# Altium integrated library Linear Technology Power Management Hot Swap Controllers.IntLib: 992 symbols (part 34 of 93)
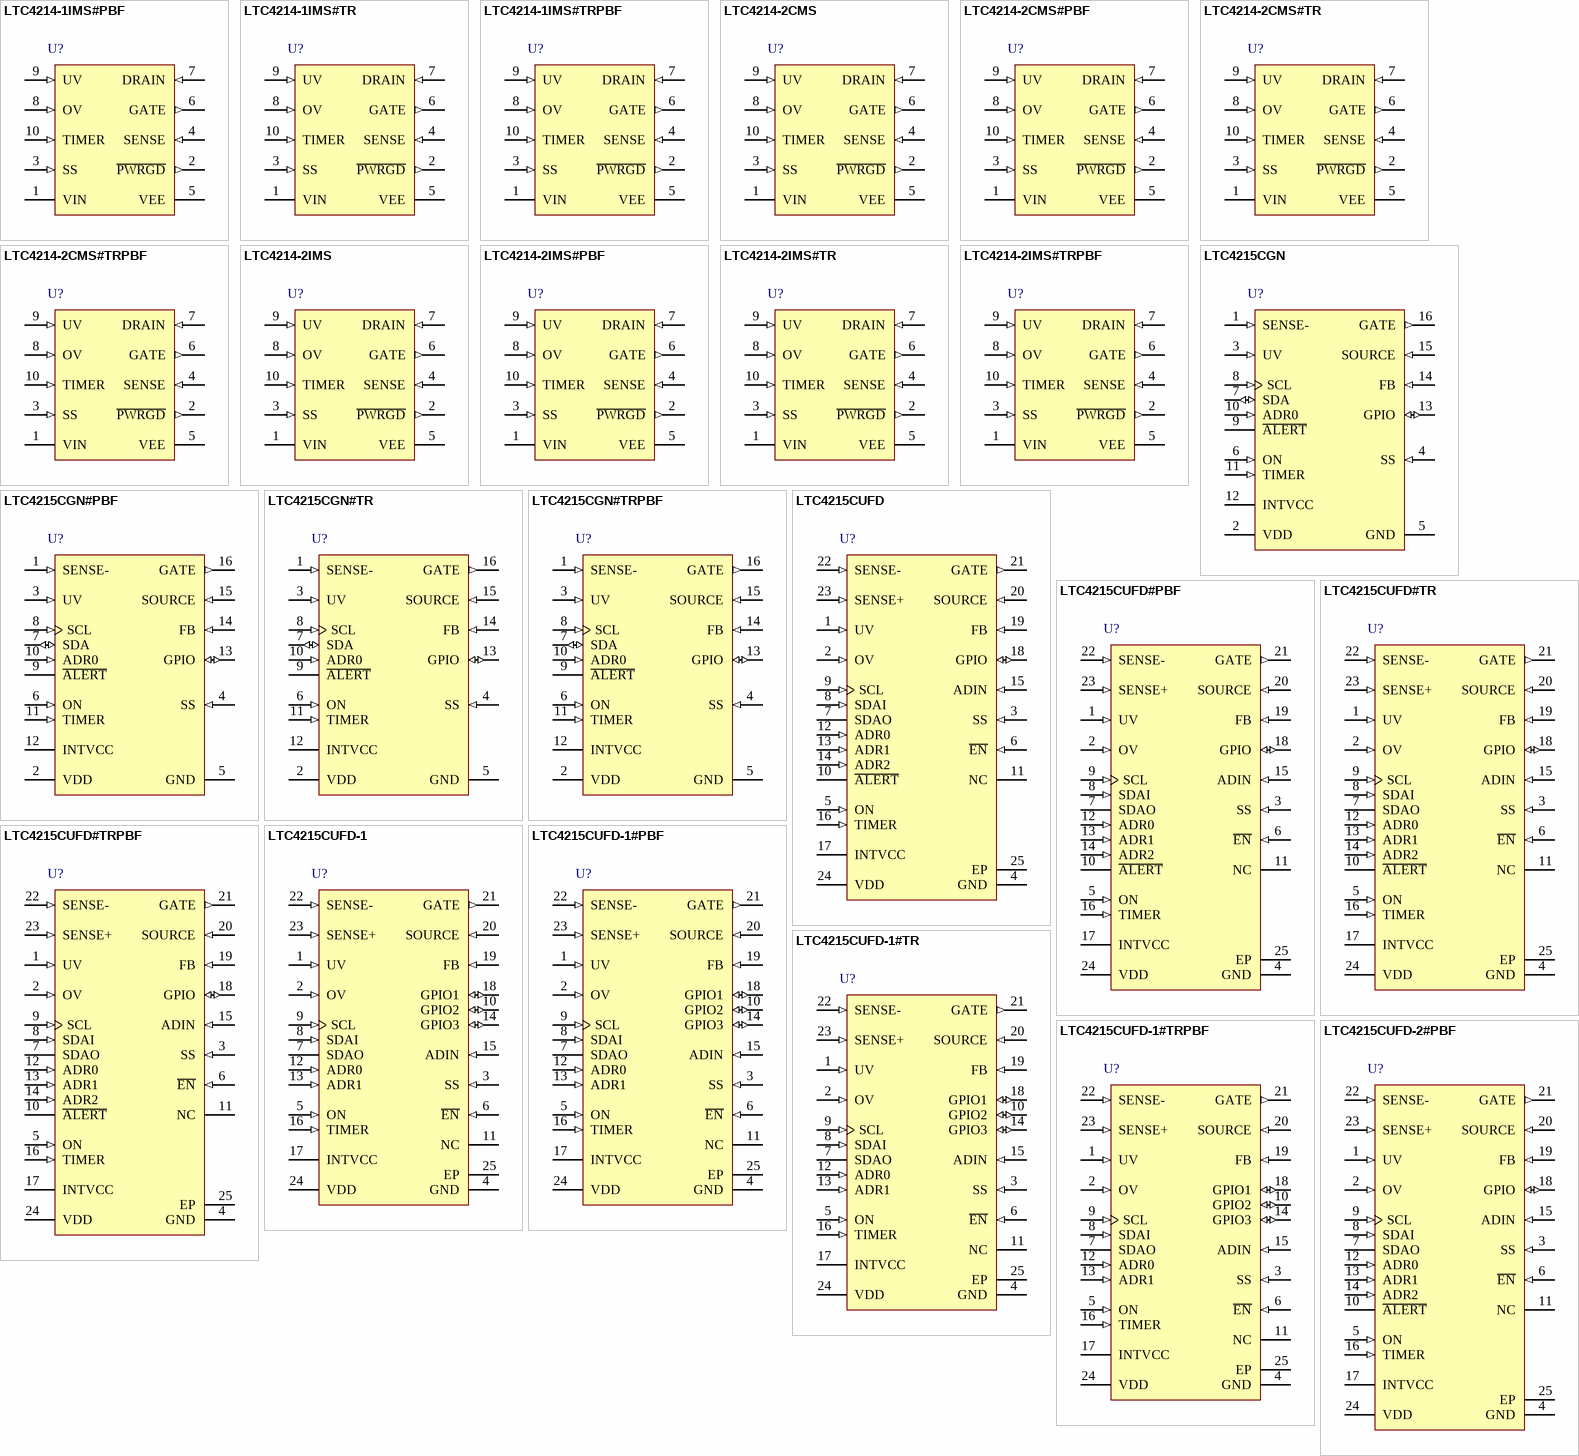
[diagram p70: symbols LTC4214-1IMS#PBF to LTC4215CUFD-2#PBF]

## LTC4214-1IMS#TR
designator U?
Negative Low Voltage Hot Swap Controller, -6 to -16 V Vin, 10-pin SOP (MS-10), -40 to 85 degC, Tape and Reel; Manufacturer: Linear Technology; PartNumber: LTC4214-1IMS#TR; Active Limiting: yes; Circuit Breaker Accuracy(%): 12; Circuit Breaker Threshold: 50 mV; Circuit Breakers(#): 1; Extended Temp: C, I; Fault: no; In-Rush Current: Active; PackageVersion: Rev. E, 06/2010; PackageReference: MS-10; PackageDescription: 10-Pin Plastic MSOP, Body 3 x 3 mm, Pitch 0.5 mm; Supplier 1: Digi-Key; Supplier Part Number 1: LTC4214-1IMS#TR-ND; Fast Comparator: yes; Foldback: no; Packing: Tape and Reel; Power Good: yes; Reset: no; RoHS: FALSE; Vin Range: -6 to -16 V; Mounting Technology: Surface Mount; ComponentLink1Description: Manufacturer URL; ComponentLink1URL: http://www.linear.com/; ComponentLink2Description: Datasheet; ComponentLink2URL: http://cds.linear.com/docs/en/datasheet/421412f.pdf; ComponentLink3Description: Package Specification; ComponentLink3URL: http://cds.linear.com/docs/en/packaging/05081661_F_MS.pdf
footprint LT-MS-10_N (SOP, 10-Leads, Body 3.1x3.1mm, Pitch 0.5mm, IPC Medium Density)
footprint LT-MS-10_L (SOP, 10-Leads, Body 3.1x3.1mm, Pitch 0.5mm, IPC High Density)
footprint LT-MS-10_M (SOP, 10-Leads, Body 3.1x3.1mm, Pitch 0.5mm, IPC Low Density)
pins: 1 VIN (power) "Positive Supply Input. Connect this pin to the positive side of the supply through a dropping resistor. A shunt regulator clamps VIN at 13V. An internal undervoltage lockout (UVLO) circuit holds GATE low until the VIN pin is (See Datasheet)", 2 ~{PWRGD} (out) "Power Good Status Output (MS only). At start-up, P\W\R\G\D\ latches low if DRAIN is below 2.385V and GATE is within 2.8V of VIN. P\W\R\G\D\ status is reset by UV, VIN (UVLO) or a circuit breaker fault timeout. This pin is (See Datasheet)", 3 SS (in) "Soft-Start Pin. This pin is used to ramp inrush current during start up, thereby effecting control over di/dt. A 20x attenuated version of the SS pin voltage is presented to the current limit amplifier. This attenuated (See Datasheet)", 4 SENSE (in) "Circuit Breaker/Current Limit Sense Pin. Load current is monitored by a sense resistor RS connected between SENSE and VEE, and controlled in three steps. If SENSE exceeds VCB (50mV), the circuit breaker comparator activates (See Datasheet)", 5 VEE (power) "Negative Supply Voltage Input. Connect this pin to the negative side of the power supply.", 6 GATE (out) "N-Channel MOSFET Gate Drive Output. This pin is pulled high by a 58uA current source. GATE is pulled low by invalid conditions at VIN (UVLO), UV, OV, or a circuit breaker fault timeout. GATE is actively servoed to control (See Datasheet)", 7 DRAIN (in) "Drain Sense Input. Connecting an external resistor, RD, between this pin and the MOSFET’s drain (VOUT) allows voltage sensing below 6.15V (5V for LTC4252C) and current feedback to TIMER. A comparator detects if DRAIN i(See Datasheet)", 8 OV (in) "Overvoltage Input. The active high threshold at the OV pin is set at 6.15V with 0.6V hysteresis. If OV > 6.15V, GATE pulls low. When OV returns below 5.55V, GATE start-up begins without an initial timing cycle. The LTC4252C (See Datasheet)", 9 UV (in) "Undervoltage Input. The active low threshold at the UV pin is set at 2.925V with 0.3V hysteresis. If UV < 2.925V, P\W\R\G\D\ pulls high, both GATE and TIMER pull low. If UV rises above 3.225V, this initiates an initial (See Datasheet)", 10 TIMER (in) "Timer Input. TIMER is used to generate an initial timing delay at start-up and to delay shutdown in the event of an output overload (circuit breaker fault). TIMER starts an initial timing cycle when the following conditions (See Datasheet)"

## LTC4214-1IMS#TRPBF
designator U?
Negative Low Voltage Hot Swap Controller, -6 to -16 V Vin, 10-pin SOP (MS-10), -40 to 85 degC, Pb-Free, Tape and Reel; Manufacturer: Linear Technology; PartNumber: LTC4214-1IMS#TRPBF; Active Limiting: yes; Circuit Breaker Accuracy(%): 12; Circuit Breaker Threshold: 50 mV; Circuit Breakers(#): 1; Extended Temp: C, I; Fault: no; In-Rush Current: Active; PackageVersion: Rev. E, 06/2010; PackageReference: MS-10; PackageDescription: 10-Pin Plastic MSOP, Body 3 x 3 mm, Pitch 0.5 mm; Supplier 1: Digi-Key; Supplier Part Number 1: LTC4214-1IMS#TRPBF-ND; Fast Comparator: yes; Foldback: no; Packing: Tape and Reel; Power Good: yes; Reset: no; RoHS: TRUE; Vin Range: -6 to -16 V; Mounting Technology: Surface Mount; ComponentLink1Description: Manufacturer URL; ComponentLink1URL: http://www.linear.com/; ComponentLink2Description: Datasheet; ComponentLink2URL: http://cds.linear.com/docs/en/datasheet/421412f.pdf; ComponentLink3Description: Package Specification; ComponentLink3URL: http://cds.linear.com/docs/en/packaging/05081661_F_MS.pdf
footprint LT-MS-10_N (SOP, 10-Leads, Body 3.1x3.1mm, Pitch 0.5mm, IPC Medium Density)
footprint LT-MS-10_L (SOP, 10-Leads, Body 3.1x3.1mm, Pitch 0.5mm, IPC High Density)
footprint LT-MS-10_M (SOP, 10-Leads, Body 3.1x3.1mm, Pitch 0.5mm, IPC Low Density)
pins: 1 VIN (power) "Positive Supply Input. Connect this pin to the positive side of the supply through a dropping resistor. A shunt regulator clamps VIN at 13V. An internal undervoltage lockout (UVLO) circuit holds GATE low until the VIN pin is (See Datasheet)", 2 ~{PWRGD} (out) "Power Good Status Output (MS only). At start-up, P\W\R\G\D\ latches low if DRAIN is below 2.385V and GATE is within 2.8V of VIN. P\W\R\G\D\ status is reset by UV, VIN (UVLO) or a circuit breaker fault timeout. This pin is (See Datasheet)", 3 SS (in) "Soft-Start Pin. This pin is used to ramp inrush current during start up, thereby effecting control over di/dt. A 20x attenuated version of the SS pin voltage is presented to the current limit amplifier. This attenuated (See Datasheet)", 4 SENSE (in) "Circuit Breaker/Current Limit Sense Pin. Load current is monitored by a sense resistor RS connected between SENSE and VEE, and controlled in three steps. If SENSE exceeds VCB (50mV), the circuit breaker comparator activates (See Datasheet)", 5 VEE (power) "Negative Supply Voltage Input. Connect this pin to the negative side of the power supply.", 6 GATE (out) "N-Channel MOSFET Gate Drive Output. This pin is pulled high by a 58uA current source. GATE is pulled low by invalid conditions at VIN (UVLO), UV, OV, or a circuit breaker fault timeout. GATE is actively servoed to control (See Datasheet)", 7 DRAIN (in) "Drain Sense Input. Connecting an external resistor, RD, between this pin and the MOSFET’s drain (VOUT) allows voltage sensing below 6.15V (5V for LTC4252C) and current feedback to TIMER. A comparator detects if DRAIN i(See Datasheet)", 8 OV (in) "Overvoltage Input. The active high threshold at the OV pin is set at 6.15V with 0.6V hysteresis. If OV > 6.15V, GATE pulls low. When OV returns below 5.55V, GATE start-up begins without an initial timing cycle. The LTC4252C (See Datasheet)", 9 UV (in) "Undervoltage Input. The active low threshold at the UV pin is set at 2.925V with 0.3V hysteresis. If UV < 2.925V, P\W\R\G\D\ pulls high, both GATE and TIMER pull low. If UV rises above 3.225V, this initiates an initial (See Datasheet)", 10 TIMER (in) "Timer Input. TIMER is used to generate an initial timing delay at start-up and to delay shutdown in the event of an output overload (circuit breaker fault). TIMER starts an initial timing cycle when the following conditions (See Datasheet)"

## LTC4214-2CMS
designator U?
Negative Low Voltage Hot Swap Controller, -6 to -16 V Vin, 10-pin SOP (MS-10), 0 to 70 degC; Manufacturer: Linear Technology; PartNumber: LTC4214-2CMS; Active Limiting: yes; Circuit Breaker Accuracy(%): 12; Circuit Breaker Threshold: 50 mV; Circuit Breakers(#): 1; Extended Temp: C, I; Fault: no; In-Rush Current: Active; PackageVersion: Rev. E, 06/2010; PackageReference: MS-10; PackageDescription: 10-Pin Plastic MSOP, Body 3 x 3 mm, Pitch 0.5 mm; Supplier 1: Digi-Key; Supplier Part Number 1: LTC4214-2CMS-ND; Fast Comparator: yes; Foldback: no; Power Good: yes; Reset: no; RoHS: FALSE; Vin Range: -6 to -16 V; Mounting Technology: Surface Mount; ComponentLink1Description: Manufacturer URL; ComponentLink1URL: http://www.linear.com/; ComponentLink2Description: Datasheet; ComponentLink2URL: http://cds.linear.com/docs/en/datasheet/421412f.pdf; ComponentLink3Description: Package Specification; ComponentLink3URL: http://cds.linear.com/docs/en/packaging/05081661_F_MS.pdf
footprint LT-MS-10_N (SOP, 10-Leads, Body 3.1x3.1mm, Pitch 0.5mm, IPC Medium Density)
footprint LT-MS-10_L (SOP, 10-Leads, Body 3.1x3.1mm, Pitch 0.5mm, IPC High Density)
footprint LT-MS-10_M (SOP, 10-Leads, Body 3.1x3.1mm, Pitch 0.5mm, IPC Low Density)
pins: 1 VIN (power) "Positive Supply Input. Connect this pin to the positive side of the supply through a dropping resistor. A shunt regulator clamps VIN at 13V. An internal undervoltage lockout (UVLO) circuit holds GATE low until the VIN pin is (See Datasheet)", 2 ~{PWRGD} (out) "Power Good Status Output (MS only). At start-up, P\W\R\G\D\ latches low if DRAIN is below 2.385V and GATE is within 2.8V of VIN. P\W\R\G\D\ status is reset by UV, VIN (UVLO) or a circuit breaker fault timeout. This pin is (See Datasheet)", 3 SS (in) "Soft-Start Pin. This pin is used to ramp inrush current during start up, thereby effecting control over di/dt. A 20x attenuated version of the SS pin voltage is presented to the current limit amplifier. This attenuated (See Datasheet)", 4 SENSE (in) "Circuit Breaker/Current Limit Sense Pin. Load current is monitored by a sense resistor RS connected between SENSE and VEE, and controlled in three steps. If SENSE exceeds VCB (50mV), the circuit breaker comparator activates (See Datasheet)", 5 VEE (power) "Negative Supply Voltage Input. Connect this pin to the negative side of the power supply.", 6 GATE (out) "N-Channel MOSFET Gate Drive Output. This pin is pulled high by a 58uA current source. GATE is pulled low by invalid conditions at VIN (UVLO), UV, OV, or a circuit breaker fault timeout. GATE is actively servoed to control (See Datasheet)", 7 DRAIN (in) "Drain Sense Input. Connecting an external resistor, RD, between this pin and the MOSFET’s drain (VOUT) allows voltage sensing below 6.15V (5V for LTC4252C) and current feedback to TIMER. A comparator detects if DRAIN i(See Datasheet)", 8 OV (in) "Overvoltage Input. The active high threshold at the OV pin is set at 6.15V with 0.6V hysteresis. If OV > 6.15V, GATE pulls low. When OV returns below 5.55V, GATE start-up begins without an initial timing cycle. The LTC4252C (See Datasheet)", 9 UV (in) "Undervoltage Input. The active low threshold at the UV pin is set at 2.925V with 0.3V hysteresis. If UV < 2.925V, P\W\R\G\D\ pulls high, both GATE and TIMER pull low. If UV rises above 3.225V, this initiates an initial (See Datasheet)", 10 TIMER (in) "Timer Input. TIMER is used to generate an initial timing delay at start-up and to delay shutdown in the event of an output overload (circuit breaker fault). TIMER starts an initial timing cycle when the following conditions (See Datasheet)"

## LTC4214-2CMS#PBF
designator U?
Negative Low Voltage Hot Swap Controller, -6 to -16 V Vin, 10-pin SOP (MS-10), 0 to 70 degC, Pb-Free; Manufacturer: Linear Technology; PartNumber: LTC4214-2CMS#PBF; Active Limiting: yes; Circuit Breaker Accuracy(%): 12; Circuit Breaker Threshold: 50 mV; Circuit Breakers(#): 1; Extended Temp: C, I; Fault: no; In-Rush Current: Active; PackageVersion: Rev. E, 06/2010; PackageReference: MS-10; PackageDescription: 10-Pin Plastic MSOP, Body 3 x 3 mm, Pitch 0.5 mm; Supplier 1: Digi-Key; Supplier Part Number 1: LTC4214-2CMS#PBF-ND; Supplier 2: Farnell; Supplier Part Number 2: 1273992; Supplier 3: Newark; Supplier Part Number 3: 56M8816; Fast Comparator: yes; Foldback: no; Power Good: yes; Reset: no; RoHS: TRUE; Vin Range: -6 to -16 V; Mounting Technology: Surface Mount; ComponentLink1Description: Manufacturer URL; ComponentLink1URL: http://www.linear.com/; ComponentLink2Description: Datasheet; ComponentLink2URL: http://cds.linear.com/docs/en/datasheet/421412f.pdf; ComponentLink3Description: Package Specification; ComponentLink3URL: http://cds.linear.com/docs/en/packaging/05081661_F_MS.pdf
footprint LT-MS-10_N (SOP, 10-Leads, Body 3.1x3.1mm, Pitch 0.5mm, IPC Medium Density)
footprint LT-MS-10_L (SOP, 10-Leads, Body 3.1x3.1mm, Pitch 0.5mm, IPC High Density)
footprint LT-MS-10_M (SOP, 10-Leads, Body 3.1x3.1mm, Pitch 0.5mm, IPC Low Density)
pins: 1 VIN (power) "Positive Supply Input. Connect this pin to the positive side of the supply through a dropping resistor. A shunt regulator clamps VIN at 13V. An internal undervoltage lockout (UVLO) circuit holds GATE low until the VIN pin is (See Datasheet)", 2 ~{PWRGD} (out) "Power Good Status Output (MS only). At start-up, P\W\R\G\D\ latches low if DRAIN is below 2.385V and GATE is within 2.8V of VIN. P\W\R\G\D\ status is reset by UV, VIN (UVLO) or a circuit breaker fault timeout. This pin is (See Datasheet)", 3 SS (in) "Soft-Start Pin. This pin is used to ramp inrush current during start up, thereby effecting control over di/dt. A 20x attenuated version of the SS pin voltage is presented to the current limit amplifier. This attenuated (See Datasheet)", 4 SENSE (in) "Circuit Breaker/Current Limit Sense Pin. Load current is monitored by a sense resistor RS connected between SENSE and VEE, and controlled in three steps. If SENSE exceeds VCB (50mV), the circuit breaker comparator activates (See Datasheet)", 5 VEE (power) "Negative Supply Voltage Input. Connect this pin to the negative side of the power supply.", 6 GATE (out) "N-Channel MOSFET Gate Drive Output. This pin is pulled high by a 58uA current source. GATE is pulled low by invalid conditions at VIN (UVLO), UV, OV, or a circuit breaker fault timeout. GATE is actively servoed to control (See Datasheet)", 7 DRAIN (in) "Drain Sense Input. Connecting an external resistor, RD, between this pin and the MOSFET’s drain (VOUT) allows voltage sensing below 6.15V (5V for LTC4252C) and current feedback to TIMER. A comparator detects if DRAIN i(See Datasheet)", 8 OV (in) "Overvoltage Input. The active high threshold at the OV pin is set at 6.15V with 0.6V hysteresis. If OV > 6.15V, GATE pulls low. When OV returns below 5.55V, GATE start-up begins without an initial timing cycle. The LTC4252C (See Datasheet)", 9 UV (in) "Undervoltage Input. The active low threshold at the UV pin is set at 2.925V with 0.3V hysteresis. If UV < 2.925V, P\W\R\G\D\ pulls high, both GATE and TIMER pull low. If UV rises above 3.225V, this initiates an initial (See Datasheet)", 10 TIMER (in) "Timer Input. TIMER is used to generate an initial timing delay at start-up and to delay shutdown in the event of an output overload (circuit breaker fault). TIMER starts an initial timing cycle when the following conditions (See Datasheet)"

## LTC4214-2CMS#TR
designator U?
Negative Low Voltage Hot Swap Controller, -6 to -16 V Vin, 10-pin SOP (MS-10), 0 to 70 degC, Tape and Reel; Manufacturer: Linear Technology; PartNumber: LTC4214-2CMS#TR; Active Limiting: yes; Circuit Breaker Accuracy(%): 12; Circuit Breaker Threshold: 50 mV; Circuit Breakers(#): 1; Extended Temp: C, I; Fault: no; In-Rush Current: Active; PackageVersion: Rev. E, 06/2010; PackageReference: MS-10; PackageDescription: 10-Pin Plastic MSOP, Body 3 x 3 mm, Pitch 0.5 mm; Supplier 1: Digi-Key; Supplier Part Number 1: LTC4214-2CMS#TR-ND; Fast Comparator: yes; Foldback: no; Packing: Tape and Reel; Power Good: yes; Reset: no; RoHS: FALSE; Vin Range: -6 to -16 V; Mounting Technology: Surface Mount; ComponentLink1Description: Manufacturer URL; ComponentLink1URL: http://www.linear.com/; ComponentLink2Description: Datasheet; ComponentLink2URL: http://cds.linear.com/docs/en/datasheet/421412f.pdf; ComponentLink3Description: Package Specification; ComponentLink3URL: http://cds.linear.com/docs/en/packaging/05081661_F_MS.pdf
footprint LT-MS-10_N (SOP, 10-Leads, Body 3.1x3.1mm, Pitch 0.5mm, IPC Medium Density)
footprint LT-MS-10_L (SOP, 10-Leads, Body 3.1x3.1mm, Pitch 0.5mm, IPC High Density)
footprint LT-MS-10_M (SOP, 10-Leads, Body 3.1x3.1mm, Pitch 0.5mm, IPC Low Density)
pins: 1 VIN (power) "Positive Supply Input. Connect this pin to the positive side of the supply through a dropping resistor. A shunt regulator clamps VIN at 13V. An internal undervoltage lockout (UVLO) circuit holds GATE low until the VIN pin is (See Datasheet)", 2 ~{PWRGD} (out) "Power Good Status Output (MS only). At start-up, P\W\R\G\D\ latches low if DRAIN is below 2.385V and GATE is within 2.8V of VIN. P\W\R\G\D\ status is reset by UV, VIN (UVLO) or a circuit breaker fault timeout. This pin is (See Datasheet)", 3 SS (in) "Soft-Start Pin. This pin is used to ramp inrush current during start up, thereby effecting control over di/dt. A 20x attenuated version of the SS pin voltage is presented to the current limit amplifier. This attenuated (See Datasheet)", 4 SENSE (in) "Circuit Breaker/Current Limit Sense Pin. Load current is monitored by a sense resistor RS connected between SENSE and VEE, and controlled in three steps. If SENSE exceeds VCB (50mV), the circuit breaker comparator activates (See Datasheet)", 5 VEE (power) "Negative Supply Voltage Input. Connect this pin to the negative side of the power supply.", 6 GATE (out) "N-Channel MOSFET Gate Drive Output. This pin is pulled high by a 58uA current source. GATE is pulled low by invalid conditions at VIN (UVLO), UV, OV, or a circuit breaker fault timeout. GATE is actively servoed to control (See Datasheet)", 7 DRAIN (in) "Drain Sense Input. Connecting an external resistor, RD, between this pin and the MOSFET’s drain (VOUT) allows voltage sensing below 6.15V (5V for LTC4252C) and current feedback to TIMER. A comparator detects if DRAIN i(See Datasheet)", 8 OV (in) "Overvoltage Input. The active high threshold at the OV pin is set at 6.15V with 0.6V hysteresis. If OV > 6.15V, GATE pulls low. When OV returns below 5.55V, GATE start-up begins without an initial timing cycle. The LTC4252C (See Datasheet)", 9 UV (in) "Undervoltage Input. The active low threshold at the UV pin is set at 2.925V with 0.3V hysteresis. If UV < 2.925V, P\W\R\G\D\ pulls high, both GATE and TIMER pull low. If UV rises above 3.225V, this initiates an initial (See Datasheet)", 10 TIMER (in) "Timer Input. TIMER is used to generate an initial timing delay at start-up and to delay shutdown in the event of an output overload (circuit breaker fault). TIMER starts an initial timing cycle when the following conditions (See Datasheet)"

## LTC4214-2CMS#TRPBF
designator U?
Negative Low Voltage Hot Swap Controller, -6 to -16 V Vin, 10-pin SOP (MS-10), 0 to 70 degC, Pb-Free, Tape and Reel; Manufacturer: Linear Technology; PartNumber: LTC4214-2CMS#TRPBF; Active Limiting: yes; Circuit Breaker Accuracy(%): 12; Circuit Breaker Threshold: 50 mV; Circuit Breakers(#): 1; Extended Temp: C, I; Fault: no; In-Rush Current: Active; PackageVersion: Rev. E, 06/2010; PackageReference: MS-10; PackageDescription: 10-Pin Plastic MSOP, Body 3 x 3 mm, Pitch 0.5 mm; Supplier 1: Digi-Key; Supplier Part Number 1: LTC4214-2CMS#TRPBF-ND; Fast Comparator: yes; Foldback: no; Packing: Tape and Reel; Power Good: yes; Reset: no; RoHS: TRUE; Vin Range: -6 to -16 V; Mounting Technology: Surface Mount; ComponentLink1Description: Manufacturer URL; ComponentLink1URL: http://www.linear.com/; ComponentLink2Description: Datasheet; ComponentLink2URL: http://cds.linear.com/docs/en/datasheet/421412f.pdf; ComponentLink3Description: Package Specification; ComponentLink3URL: http://cds.linear.com/docs/en/packaging/05081661_F_MS.pdf
footprint LT-MS-10_N (SOP, 10-Leads, Body 3.1x3.1mm, Pitch 0.5mm, IPC Medium Density)
footprint LT-MS-10_L (SOP, 10-Leads, Body 3.1x3.1mm, Pitch 0.5mm, IPC High Density)
footprint LT-MS-10_M (SOP, 10-Leads, Body 3.1x3.1mm, Pitch 0.5mm, IPC Low Density)
pins: 1 VIN (power) "Positive Supply Input. Connect this pin to the positive side of the supply through a dropping resistor. A shunt regulator clamps VIN at 13V. An internal undervoltage lockout (UVLO) circuit holds GATE low until the VIN pin is (See Datasheet)", 2 ~{PWRGD} (out) "Power Good Status Output (MS only). At start-up, P\W\R\G\D\ latches low if DRAIN is below 2.385V and GATE is within 2.8V of VIN. P\W\R\G\D\ status is reset by UV, VIN (UVLO) or a circuit breaker fault timeout. This pin is (See Datasheet)", 3 SS (in) "Soft-Start Pin. This pin is used to ramp inrush current during start up, thereby effecting control over di/dt. A 20x attenuated version of the SS pin voltage is presented to the current limit amplifier. This attenuated (See Datasheet)", 4 SENSE (in) "Circuit Breaker/Current Limit Sense Pin. Load current is monitored by a sense resistor RS connected between SENSE and VEE, and controlled in three steps. If SENSE exceeds VCB (50mV), the circuit breaker comparator activates (See Datasheet)", 5 VEE (power) "Negative Supply Voltage Input. Connect this pin to the negative side of the power supply.", 6 GATE (out) "N-Channel MOSFET Gate Drive Output. This pin is pulled high by a 58uA current source. GATE is pulled low by invalid conditions at VIN (UVLO), UV, OV, or a circuit breaker fault timeout. GATE is actively servoed to control (See Datasheet)", 7 DRAIN (in) "Drain Sense Input. Connecting an external resistor, RD, between this pin and the MOSFET’s drain (VOUT) allows voltage sensing below 6.15V (5V for LTC4252C) and current feedback to TIMER. A comparator detects if DRAIN i(See Datasheet)", 8 OV (in) "Overvoltage Input. The active high threshold at the OV pin is set at 6.15V with 0.6V hysteresis. If OV > 6.15V, GATE pulls low. When OV returns below 5.55V, GATE start-up begins without an initial timing cycle. The LTC4252C (See Datasheet)", 9 UV (in) "Undervoltage Input. The active low threshold at the UV pin is set at 2.925V with 0.3V hysteresis. If UV < 2.925V, P\W\R\G\D\ pulls high, both GATE and TIMER pull low. If UV rises above 3.225V, this initiates an initial (See Datasheet)", 10 TIMER (in) "Timer Input. TIMER is used to generate an initial timing delay at start-up and to delay shutdown in the event of an output overload (circuit breaker fault). TIMER starts an initial timing cycle when the following conditions (See Datasheet)"

## LTC4214-2IMS
designator U?
Negative Low Voltage Hot Swap Controller, -6 to -16 V Vin, 10-pin SOP (MS-10), -40 to 85 degC; Manufacturer: Linear Technology; PartNumber: LTC4214-2IMS; Active Limiting: yes; Circuit Breaker Accuracy(%): 12; Circuit Breaker Threshold: 50 mV; Circuit Breakers(#): 1; Extended Temp: C, I; Fault: no; In-Rush Current: Active; PackageVersion: Rev. E, 06/2010; PackageReference: MS-10; PackageDescription: 10-Pin Plastic MSOP, Body 3 x 3 mm, Pitch 0.5 mm; Supplier 1: Digi-Key; Supplier Part Number 1: LTC4214-2IMS-ND; Fast Comparator: yes; Foldback: no; Power Good: yes; Reset: no; RoHS: FALSE; Vin Range: -6 to -16 V; Mounting Technology: Surface Mount; ComponentLink1Description: Manufacturer URL; ComponentLink1URL: http://www.linear.com/; ComponentLink2Description: Datasheet; ComponentLink2URL: http://cds.linear.com/docs/en/datasheet/421412f.pdf; ComponentLink3Description: Package Specification; ComponentLink3URL: http://cds.linear.com/docs/en/packaging/05081661_F_MS.pdf
footprint LT-MS-10_N (SOP, 10-Leads, Body 3.1x3.1mm, Pitch 0.5mm, IPC Medium Density)
footprint LT-MS-10_L (SOP, 10-Leads, Body 3.1x3.1mm, Pitch 0.5mm, IPC High Density)
footprint LT-MS-10_M (SOP, 10-Leads, Body 3.1x3.1mm, Pitch 0.5mm, IPC Low Density)
pins: 1 VIN (power) "Positive Supply Input. Connect this pin to the positive side of the supply through a dropping resistor. A shunt regulator clamps VIN at 13V. An internal undervoltage lockout (UVLO) circuit holds GATE low until the VIN pin is (See Datasheet)", 2 ~{PWRGD} (out) "Power Good Status Output (MS only). At start-up, P\W\R\G\D\ latches low if DRAIN is below 2.385V and GATE is within 2.8V of VIN. P\W\R\G\D\ status is reset by UV, VIN (UVLO) or a circuit breaker fault timeout. This pin is (See Datasheet)", 3 SS (in) "Soft-Start Pin. This pin is used to ramp inrush current during start up, thereby effecting control over di/dt. A 20x attenuated version of the SS pin voltage is presented to the current limit amplifier. This attenuated (See Datasheet)", 4 SENSE (in) "Circuit Breaker/Current Limit Sense Pin. Load current is monitored by a sense resistor RS connected between SENSE and VEE, and controlled in three steps. If SENSE exceeds VCB (50mV), the circuit breaker comparator activates (See Datasheet)", 5 VEE (power) "Negative Supply Voltage Input. Connect this pin to the negative side of the power supply.", 6 GATE (out) "N-Channel MOSFET Gate Drive Output. This pin is pulled high by a 58uA current source. GATE is pulled low by invalid conditions at VIN (UVLO), UV, OV, or a circuit breaker fault timeout. GATE is actively servoed to control (See Datasheet)", 7 DRAIN (in) "Drain Sense Input. Connecting an external resistor, RD, between this pin and the MOSFET’s drain (VOUT) allows voltage sensing below 6.15V (5V for LTC4252C) and current feedback to TIMER. A comparator detects if DRAIN i(See Datasheet)", 8 OV (in) "Overvoltage Input. The active high threshold at the OV pin is set at 6.15V with 0.6V hysteresis. If OV > 6.15V, GATE pulls low. When OV returns below 5.55V, GATE start-up begins without an initial timing cycle. The LTC4252C (See Datasheet)", 9 UV (in) "Undervoltage Input. The active low threshold at the UV pin is set at 2.925V with 0.3V hysteresis. If UV < 2.925V, P\W\R\G\D\ pulls high, both GATE and TIMER pull low. If UV rises above 3.225V, this initiates an initial (See Datasheet)", 10 TIMER (in) "Timer Input. TIMER is used to generate an initial timing delay at start-up and to delay shutdown in the event of an output overload (circuit breaker fault). TIMER starts an initial timing cycle when the following conditions (See Datasheet)"

## LTC4214-2IMS#PBF
designator U?
Negative Low Voltage Hot Swap Controller, -6 to -16 V Vin, 10-pin SOP (MS-10), -40 to 85 degC, Pb-Free; Manufacturer: Linear Technology; PartNumber: LTC4214-2IMS#PBF; Active Limiting: yes; Circuit Breaker Accuracy(%): 12; Circuit Breaker Threshold: 50 mV; Circuit Breakers(#): 1; Extended Temp: C, I; Fault: no; In-Rush Current: Active; PackageVersion: Rev. E, 06/2010; PackageReference: MS-10; PackageDescription: 10-Pin Plastic MSOP, Body 3 x 3 mm, Pitch 0.5 mm; Supplier 1: Digi-Key; Supplier Part Number 1: LTC4214-2IMS#PBF-ND; Supplier 2: Newark; Supplier Part Number 2: 56M8820; Fast Comparator: yes; Foldback: no; Power Good: yes; Reset: no; RoHS: TRUE; Vin Range: -6 to -16 V; Mounting Technology: Surface Mount; ComponentLink1Description: Manufacturer URL; ComponentLink1URL: http://www.linear.com/; ComponentLink2Description: Datasheet; ComponentLink2URL: http://cds.linear.com/docs/en/datasheet/421412f.pdf; ComponentLink3Description: Package Specification; ComponentLink3URL: http://cds.linear.com/docs/en/packaging/05081661_F_MS.pdf
footprint LT-MS-10_N (SOP, 10-Leads, Body 3.1x3.1mm, Pitch 0.5mm, IPC Medium Density)
footprint LT-MS-10_L (SOP, 10-Leads, Body 3.1x3.1mm, Pitch 0.5mm, IPC High Density)
footprint LT-MS-10_M (SOP, 10-Leads, Body 3.1x3.1mm, Pitch 0.5mm, IPC Low Density)
pins: 1 VIN (power) "Positive Supply Input. Connect this pin to the positive side of the supply through a dropping resistor. A shunt regulator clamps VIN at 13V. An internal undervoltage lockout (UVLO) circuit holds GATE low until the VIN pin is (See Datasheet)", 2 ~{PWRGD} (out) "Power Good Status Output (MS only). At start-up, P\W\R\G\D\ latches low if DRAIN is below 2.385V and GATE is within 2.8V of VIN. P\W\R\G\D\ status is reset by UV, VIN (UVLO) or a circuit breaker fault timeout. This pin is (See Datasheet)", 3 SS (in) "Soft-Start Pin. This pin is used to ramp inrush current during start up, thereby effecting control over di/dt. A 20x attenuated version of the SS pin voltage is presented to the current limit amplifier. This attenuated (See Datasheet)", 4 SENSE (in) "Circuit Breaker/Current Limit Sense Pin. Load current is monitored by a sense resistor RS connected between SENSE and VEE, and controlled in three steps. If SENSE exceeds VCB (50mV), the circuit breaker comparator activates (See Datasheet)", 5 VEE (power) "Negative Supply Voltage Input. Connect this pin to the negative side of the power supply.", 6 GATE (out) "N-Channel MOSFET Gate Drive Output. This pin is pulled high by a 58uA current source. GATE is pulled low by invalid conditions at VIN (UVLO), UV, OV, or a circuit breaker fault timeout. GATE is actively servoed to control (See Datasheet)", 7 DRAIN (in) "Drain Sense Input. Connecting an external resistor, RD, between this pin and the MOSFET’s drain (VOUT) allows voltage sensing below 6.15V (5V for LTC4252C) and current feedback to TIMER. A comparator detects if DRAIN i(See Datasheet)", 8 OV (in) "Overvoltage Input. The active high threshold at the OV pin is set at 6.15V with 0.6V hysteresis. If OV > 6.15V, GATE pulls low. When OV returns below 5.55V, GATE start-up begins without an initial timing cycle. The LTC4252C (See Datasheet)", 9 UV (in) "Undervoltage Input. The active low threshold at the UV pin is set at 2.925V with 0.3V hysteresis. If UV < 2.925V, P\W\R\G\D\ pulls high, both GATE and TIMER pull low. If UV rises above 3.225V, this initiates an initial (See Datasheet)", 10 TIMER (in) "Timer Input. TIMER is used to generate an initial timing delay at start-up and to delay shutdown in the event of an output overload (circuit breaker fault). TIMER starts an initial timing cycle when the following conditions (See Datasheet)"

## LTC4214-2IMS#TR
designator U?
Negative Low Voltage Hot Swap Controller, -6 to -16 V Vin, 10-pin SOP (MS-10), -40 to 85 degC, Tape and Reel; Manufacturer: Linear Technology; PartNumber: LTC4214-2IMS#TR; Active Limiting: yes; Circuit Breaker Accuracy(%): 12; Circuit Breaker Threshold: 50 mV; Circuit Breakers(#): 1; Extended Temp: C, I; Fault: no; In-Rush Current: Active; PackageVersion: Rev. E, 06/2010; PackageReference: MS-10; PackageDescription: 10-Pin Plastic MSOP, Body 3 x 3 mm, Pitch 0.5 mm; Supplier 1: Digi-Key; Supplier Part Number 1: LTC4214-2IMS#TR-ND; Fast Comparator: yes; Foldback: no; Packing: Tape and Reel; Power Good: yes; Reset: no; RoHS: FALSE; Vin Range: -6 to -16 V; Mounting Technology: Surface Mount; ComponentLink1Description: Manufacturer URL; ComponentLink1URL: http://www.linear.com/; ComponentLink2Description: Datasheet; ComponentLink2URL: http://cds.linear.com/docs/en/datasheet/421412f.pdf; ComponentLink3Description: Package Specification; ComponentLink3URL: http://cds.linear.com/docs/en/packaging/05081661_F_MS.pdf
footprint LT-MS-10_N (SOP, 10-Leads, Body 3.1x3.1mm, Pitch 0.5mm, IPC Medium Density)
footprint LT-MS-10_L (SOP, 10-Leads, Body 3.1x3.1mm, Pitch 0.5mm, IPC High Density)
footprint LT-MS-10_M (SOP, 10-Leads, Body 3.1x3.1mm, Pitch 0.5mm, IPC Low Density)
pins: 1 VIN (power) "Positive Supply Input. Connect this pin to the positive side of the supply through a dropping resistor. A shunt regulator clamps VIN at 13V. An internal undervoltage lockout (UVLO) circuit holds GATE low until the VIN pin is (See Datasheet)", 2 ~{PWRGD} (out) "Power Good Status Output (MS only). At start-up, P\W\R\G\D\ latches low if DRAIN is below 2.385V and GATE is within 2.8V of VIN. P\W\R\G\D\ status is reset by UV, VIN (UVLO) or a circuit breaker fault timeout. This pin is (See Datasheet)", 3 SS (in) "Soft-Start Pin. This pin is used to ramp inrush current during start up, thereby effecting control over di/dt. A 20x attenuated version of the SS pin voltage is presented to the current limit amplifier. This attenuated (See Datasheet)", 4 SENSE (in) "Circuit Breaker/Current Limit Sense Pin. Load current is monitored by a sense resistor RS connected between SENSE and VEE, and controlled in three steps. If SENSE exceeds VCB (50mV), the circuit breaker comparator activates (See Datasheet)", 5 VEE (power) "Negative Supply Voltage Input. Connect this pin to the negative side of the power supply.", 6 GATE (out) "N-Channel MOSFET Gate Drive Output. This pin is pulled high by a 58uA current source. GATE is pulled low by invalid conditions at VIN (UVLO), UV, OV, or a circuit breaker fault timeout. GATE is actively servoed to control (See Datasheet)", 7 DRAIN (in) "Drain Sense Input. Connecting an external resistor, RD, between this pin and the MOSFET’s drain (VOUT) allows voltage sensing below 6.15V (5V for LTC4252C) and current feedback to TIMER. A comparator detects if DRAIN i(See Datasheet)", 8 OV (in) "Overvoltage Input. The active high threshold at the OV pin is set at 6.15V with 0.6V hysteresis. If OV > 6.15V, GATE pulls low. When OV returns below 5.55V, GATE start-up begins without an initial timing cycle. The LTC4252C (See Datasheet)", 9 UV (in) "Undervoltage Input. The active low threshold at the UV pin is set at 2.925V with 0.3V hysteresis. If UV < 2.925V, P\W\R\G\D\ pulls high, both GATE and TIMER pull low. If UV rises above 3.225V, this initiates an initial (See Datasheet)", 10 TIMER (in) "Timer Input. TIMER is used to generate an initial timing delay at start-up and to delay shutdown in the event of an output overload (circuit breaker fault). TIMER starts an initial timing cycle when the following conditions (See Datasheet)"

## LTC4214-2IMS#TRPBF
designator U?
Negative Low Voltage Hot Swap Controller, -6 to -16 V Vin, 10-pin SOP (MS-10), -40 to 85 degC, Pb-Free, Tape and Reel; Manufacturer: Linear Technology; PartNumber: LTC4214-2IMS#TRPBF; Active Limiting: yes; Circuit Breaker Accuracy(%): 12; Circuit Breaker Threshold: 50 mV; Circuit Breakers(#): 1; Extended Temp: C, I; Fault: no; In-Rush Current: Active; PackageVersion: Rev. E, 06/2010; PackageReference: MS-10; PackageDescription: 10-Pin Plastic MSOP, Body 3 x 3 mm, Pitch 0.5 mm; Supplier 1: Digi-Key; Supplier Part Number 1: LTC4214-2IMS#TRPBF-ND; Fast Comparator: yes; Foldback: no; Packing: Tape and Reel; Power Good: yes; Reset: no; RoHS: TRUE; Vin Range: -6 to -16 V; Mounting Technology: Surface Mount; ComponentLink1Description: Manufacturer URL; ComponentLink1URL: http://www.linear.com/; ComponentLink2Description: Datasheet; ComponentLink2URL: http://cds.linear.com/docs/en/datasheet/421412f.pdf; ComponentLink3Description: Package Specification; ComponentLink3URL: http://cds.linear.com/docs/en/packaging/05081661_F_MS.pdf
footprint LT-MS-10_N (SOP, 10-Leads, Body 3.1x3.1mm, Pitch 0.5mm, IPC Medium Density)
footprint LT-MS-10_L (SOP, 10-Leads, Body 3.1x3.1mm, Pitch 0.5mm, IPC High Density)
footprint LT-MS-10_M (SOP, 10-Leads, Body 3.1x3.1mm, Pitch 0.5mm, IPC Low Density)
pins: 1 VIN (power) "Positive Supply Input. Connect this pin to the positive side of the supply through a dropping resistor. A shunt regulator clamps VIN at 13V. An internal undervoltage lockout (UVLO) circuit holds GATE low until the VIN pin is (See Datasheet)", 2 ~{PWRGD} (out) "Power Good Status Output (MS only). At start-up, P\W\R\G\D\ latches low if DRAIN is below 2.385V and GATE is within 2.8V of VIN. P\W\R\G\D\ status is reset by UV, VIN (UVLO) or a circuit breaker fault timeout. This pin is (See Datasheet)", 3 SS (in) "Soft-Start Pin. This pin is used to ramp inrush current during start up, thereby effecting control over di/dt. A 20x attenuated version of the SS pin voltage is presented to the current limit amplifier. This attenuated (See Datasheet)", 4 SENSE (in) "Circuit Breaker/Current Limit Sense Pin. Load current is monitored by a sense resistor RS connected between SENSE and VEE, and controlled in three steps. If SENSE exceeds VCB (50mV), the circuit breaker comparator activates (See Datasheet)", 5 VEE (power) "Negative Supply Voltage Input. Connect this pin to the negative side of the power supply.", 6 GATE (out) "N-Channel MOSFET Gate Drive Output. This pin is pulled high by a 58uA current source. GATE is pulled low by invalid conditions at VIN (UVLO), UV, OV, or a circuit breaker fault timeout. GATE is actively servoed to control (See Datasheet)", 7 DRAIN (in) "Drain Sense Input. Connecting an external resistor, RD, between this pin and the MOSFET’s drain (VOUT) allows voltage sensing below 6.15V (5V for LTC4252C) and current feedback to TIMER. A comparator detects if DRAIN i(See Datasheet)", 8 OV (in) "Overvoltage Input. The active high threshold at the OV pin is set at 6.15V with 0.6V hysteresis. If OV > 6.15V, GATE pulls low. When OV returns below 5.55V, GATE start-up begins without an initial timing cycle. The LTC4252C (See Datasheet)", 9 UV (in) "Undervoltage Input. The active low threshold at the UV pin is set at 2.925V with 0.3V hysteresis. If UV < 2.925V, P\W\R\G\D\ pulls high, both GATE and TIMER pull low. If UV rises above 3.225V, this initiates an initial (See Datasheet)", 10 TIMER (in) "Timer Input. TIMER is used to generate an initial timing delay at start-up and to delay shutdown in the event of an output overload (circuit breaker fault). TIMER starts an initial timing cycle when the following conditions (See Datasheet)"

## LTC4215CGN
designator U?
Hot Swap Controller with I2C Compatible Monitoring, 2.9 to 15 V Vin, 16-pin SOP (GN-16), 0 to 70 degC; Manufacturer: Linear Technology; PartNumber: LTC4215CGN; Active Limiting: yes; ADC: 8-bit; Circuit Breaker Accuracy(%): 10; Circuit Breaker Threshold: 25 mV; Circuit Breakers(#): 1; Extended Temp: C, I; Fast Comparator: no; In-Rush Current: Active / Controlled dI/dT; DatasheetVersion: Rev. E; PackageVersion: Rev. B, 03/2012; PackageReference: GN-16; PackageDescription: 16-Pin Plastic SSOP, Body 4.9 x 3.9 mm, Pitch 0.635 mm; Fault: yes; Foldback: yes; Power Good: yes; Reset: no; RoHS: FALSE; Vin Range: 2.9 to 15 V; Mounting Technology: Surface Mount; ComponentLink1Description: Manufacturer URL; ComponentLink1URL: http://www.linear.com/; ComponentLink2Description: Datasheet; ComponentLink2URL: http://cds.linear.com/docs/en/datasheet/4215fe.pdf; ComponentLink3Description: Package Specification; ComponentLink3URL: http://cds.linear.com/docs/en/packaging/05081641_B_GN16.pdf
footprint LT-GN-16_N (SOP, 16-Leads, Body 5x4mm, Pitch 0.635mm, IPC Medium Density)
footprint LT-GN-16_L (SOP, 16-Leads, Body 5x4mm, Pitch 0.635mm, IPC High Density)
footprint LT-GN-16_M (SOP, 16-Leads, Body 5x4mm, Pitch 0.635mm, IPC Low Density)
pins: 1 SENSE- (in) "Negative Current Sense Input. Connect this pin to the output of the current sense resistor. This pin provides sense voltage feedback and monitoring for the current limit, circuit breaker and ADC.", 2 VDD (power) "Supply Voltage Input. This pin has an undervoltage lockout threshold of 2.84V and overvoltage lockout threshold of 15.6V", 3 UV (in) "Undervoltage Comparator Input. Connect this pin to an external resistive divider from VDD. If the voltage at this pin falls below 1.155V, an undervoltage fault is detected and the GATE turns off. Pulling this pin below 0.4V (See Datasheet)", 4 SS (in) "Soft Start Input. Sets the inrush current slew rate at start-up. Connect a 68nF capacitor to provide 5mV/ms as the slew rate for the sense voltage in start-up. This corresponds to 1A/ms with a 5mohm sense resistor. Note that (See Datasheet)", 5 GND (power) "Device Ground.", 6 ON (in) "On Control Input. A rising edge turns on the external N-channel MOSFET and a falling edge turns it off. This pin also confi gures the state of the FET On bit in the control register (and hence the external MOSFET) at power (See Datasheet)", 7 SDA (io) "Serial Bus Data Input/Output Line.  Formed by internally tying the SDAO and SDAI lines together. An external pull-up resistor or current source is  required.", 8 SCL (in) "Serial Bus Clock Input. Data at the SDA pin is shifted in or out on rising edges of SCL. This is a high impedance pin that is generally driven by an open-collector output from a master controller. An external pull-up (See Datasheet)", 9 ~{ALERT} (oc) "Fault Alert Output. Open-drain logic output that  is pulled to ground when a fault occurs to alert the host  controller. A fault alert is enabled by the A\L\E\R\T\ register.  See Applications Information. Tie to ground if (See Datasheet)", 10 ADR0 (in) "Serial Bus Address Inputs. Tying these pins to ground, to the INTVCC pin or leaving open confi gures one of 9 possible addresses. See Table 1 in Applications Information.", 11 TIMER (in) "Start-Up Timer Input. Connect a capacitor between this pin and ground to set a 12.3ms/uF duration for start-up, after which an overcurrent fault is logged if the inrush is still current limited. The duration of the off time (See Datasheet)", 12 INTVCC (power) "Low Voltage Supply Decoupling Output. Connect a 0.1uF capacitor from this pin to ground.", 13 GPIO (io) "General Purpose Input/Output. Open-drain logic  output or logic input. Defaults to an output set to pull  low to indicate power is not good. Configure according  to Table 2 and 3.", 14 FB (in) "Foldback Current Limit and Power Good Input. A resistive divider from the output is tied to this pin. When the voltage at this pin drops below 1.235V, power is not considered good. The power bad condition may result in the (See Datasheet)", 15 SOURCE (in) "N-channel MOSFET Source and ADC Input. Connect this pin to the source of the external N-channel MOSFET switch for gate drive return. This pin also serves as the ADC input to monitor output voltage. The pin provides a return (See Datasheet)", 16 GATE (out) "Gate Drive for External N-channel MOSFET. An internal 20uA current source charges the gate of the MOSFET. No compensation capacitor is required on the GATE pin, but a resistor and capacitor network from this pin to ground (See Datasheet)"

## LTC4215CGN#PBF
designator U?
Hot Swap Controller with I2C Compatible Monitoring, 2.9 to 15 V Vin, 16-pin SOP (GN-16), 0 to 70 degC, Pb-Free; Manufacturer: Linear Technology; PartNumber: LTC4215CGN#PBF; Active Limiting: yes; ADC: 8-bit; Circuit Breaker Accuracy(%): 10; Circuit Breaker Threshold: 25 mV; Circuit Breakers(#): 1; Extended Temp: C, I; Fast Comparator: no; In-Rush Current: Active / Controlled dI/dT; DatasheetVersion: Rev. E; PackageVersion: Rev. B, 03/2012; PackageReference: GN-16; PackageDescription: 16-Pin Plastic SSOP, Body 4.9 x 3.9 mm, Pitch 0.635 mm; Supplier 1: Digi-Key; Supplier Part Number 1: LTC4215CGN#PBF-ND; Fault: yes; Foldback: yes; Power Good: yes; Reset: no; RoHS: TRUE; Vin Range: 2.9 to 15 V; Mounting Technology: Surface Mount; ComponentLink1Description: Manufacturer URL; ComponentLink1URL: http://www.linear.com/; ComponentLink2Description: Datasheet; ComponentLink2URL: http://cds.linear.com/docs/en/datasheet/4215fe.pdf; ComponentLink3Description: Package Specification; ComponentLink3URL: http://cds.linear.com/docs/en/packaging/05081641_B_GN16.pdf
footprint LT-GN-16_N (SOP, 16-Leads, Body 5x4mm, Pitch 0.635mm, IPC Medium Density)
footprint LT-GN-16_L (SOP, 16-Leads, Body 5x4mm, Pitch 0.635mm, IPC High Density)
footprint LT-GN-16_M (SOP, 16-Leads, Body 5x4mm, Pitch 0.635mm, IPC Low Density)
pins: 1 SENSE- (in) "Negative Current Sense Input. Connect this pin to the output of the current sense resistor. This pin provides sense voltage feedback and monitoring for the current limit, circuit breaker and ADC.", 2 VDD (power) "Supply Voltage Input. This pin has an undervoltage lockout threshold of 2.84V and overvoltage lockout threshold of 15.6V", 3 UV (in) "Undervoltage Comparator Input. Connect this pin to an external resistive divider from VDD. If the voltage at this pin falls below 1.155V, an undervoltage fault is detected and the GATE turns off. Pulling this pin below 0.4V (See Datasheet)", 4 SS (in) "Soft Start Input. Sets the inrush current slew rate at start-up. Connect a 68nF capacitor to provide 5mV/ms as the slew rate for the sense voltage in start-up. This corresponds to 1A/ms with a 5mohm sense resistor. Note that (See Datasheet)", 5 GND (power) "Device Ground.", 6 ON (in) "On Control Input. A rising edge turns on the external N-channel MOSFET and a falling edge turns it off. This pin also confi gures the state of the FET On bit in the control register (and hence the external MOSFET) at power (See Datasheet)", 7 SDA (io) "Serial Bus Data Input/Output Line.  Formed by internally tying the SDAO and SDAI lines together. An external pull-up resistor or current source is  required.", 8 SCL (in) "Serial Bus Clock Input. Data at the SDA pin is shifted in or out on rising edges of SCL. This is a high impedance pin that is generally driven by an open-collector output from a master controller. An external pull-up (See Datasheet)", 9 ~{ALERT} (oc) "Fault Alert Output. Open-drain logic output that  is pulled to ground when a fault occurs to alert the host  controller. A fault alert is enabled by the A\L\E\R\T\ register.  See Applications Information. Tie to ground if (See Datasheet)", 10 ADR0 (in) "Serial Bus Address Inputs. Tying these pins to ground, to the INTVCC pin or leaving open confi gures one of 9 possible addresses. See Table 1 in Applications Information.", 11 TIMER (in) "Start-Up Timer Input. Connect a capacitor between this pin and ground to set a 12.3ms/uF duration for start-up, after which an overcurrent fault is logged if the inrush is still current limited. The duration of the off time (See Datasheet)", 12 INTVCC (power) "Low Voltage Supply Decoupling Output. Connect a 0.1uF capacitor from this pin to ground.", 13 GPIO (io) "General Purpose Input/Output. Open-drain logic  output or logic input. Defaults to an output set to pull  low to indicate power is not good. Configure according  to Table 2 and 3.", 14 FB (in) "Foldback Current Limit and Power Good Input. A resistive divider from the output is tied to this pin. When the voltage at this pin drops below 1.235V, power is not considered good. The power bad condition may result in the (See Datasheet)", 15 SOURCE (in) "N-channel MOSFET Source and ADC Input. Connect this pin to the source of the external N-channel MOSFET switch for gate drive return. This pin also serves as the ADC input to monitor output voltage. The pin provides a return (See Datasheet)", 16 GATE (out) "Gate Drive for External N-channel MOSFET. An internal 20uA current source charges the gate of the MOSFET. No compensation capacitor is required on the GATE pin, but a resistor and capacitor network from this pin to ground (See Datasheet)"